# EAGLE library part 1840/1 (library Mentor-FEL)
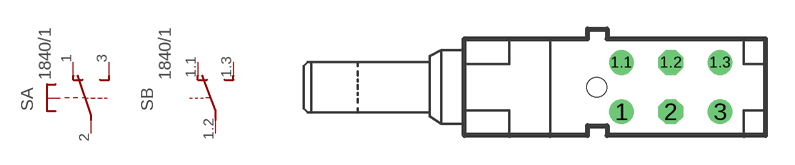
[diagram p2: symbol with the pads of 1840/1; footprint 1840/1]

Designator prefix S; gates A=DS-U- B=U-2

## 1840/1  [1840/1]
1  A:O  pas
1.1  B:O  pas
1.2  B:P  pas
1.3  B:S  pas
2  A:P  pas
3  A:S  pas

## Footprint 1840/1 (pad centres in mm)
drill 0.61 pad 1.27: 1 1.27,-1.27; 1.1 1.27,1.27; 1.3 6.35,1.27; 3 6.35,-1.27
drill 0.61 pad 1.27 octagon: 1.2 3.81,1.27; 2 3.81,-1.27
hole 1.016 at 0,0